# Altium schematic symbol library jubeat_io.SchLib: 2 symbols
Pins are listed as number, name and electrical type; pins without a type are passive.

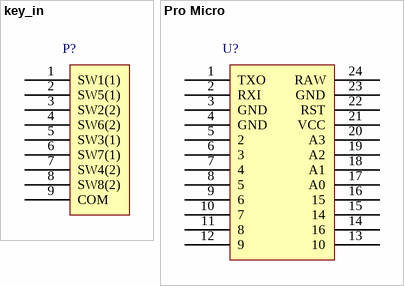
[diagram p0: symbols key_in to Pro Micro]

## key_in
designator P?
Button PCB Board Connector, PH2.00mm
footprint PH2.0-WI-9P (长：19.9mm，宽：6mm，高：4.7mm)
pins: 1 SW1(1), 2 SW5(1), 3 SW2(2), 4 SW6(2), 5 SW3(1), 6 SW7(1), 7 SW4(2), 8 SW8(2), 9 COM

## Pro Micro
designator U?
Pro Micro Arduino Board
footprint PRO MICRO
pins: 1 TXO, 2 RXI, 3 GND, 4 GND, 5 2, 6 3, 7 4, 8 5, 9 6, 10 7, 11 8, 12 9, 13 10, 14 16, 15 14, 16 15, 17 A0, 18 A1, 19 A2, 20 A3, 21 VCC, 22 RST, 23 GND, 24 RAW